# Altium schematic symbol library LCD.SchLib: 8 symbols
Pins are listed as number, name and electrical type; pins without a type are passive.

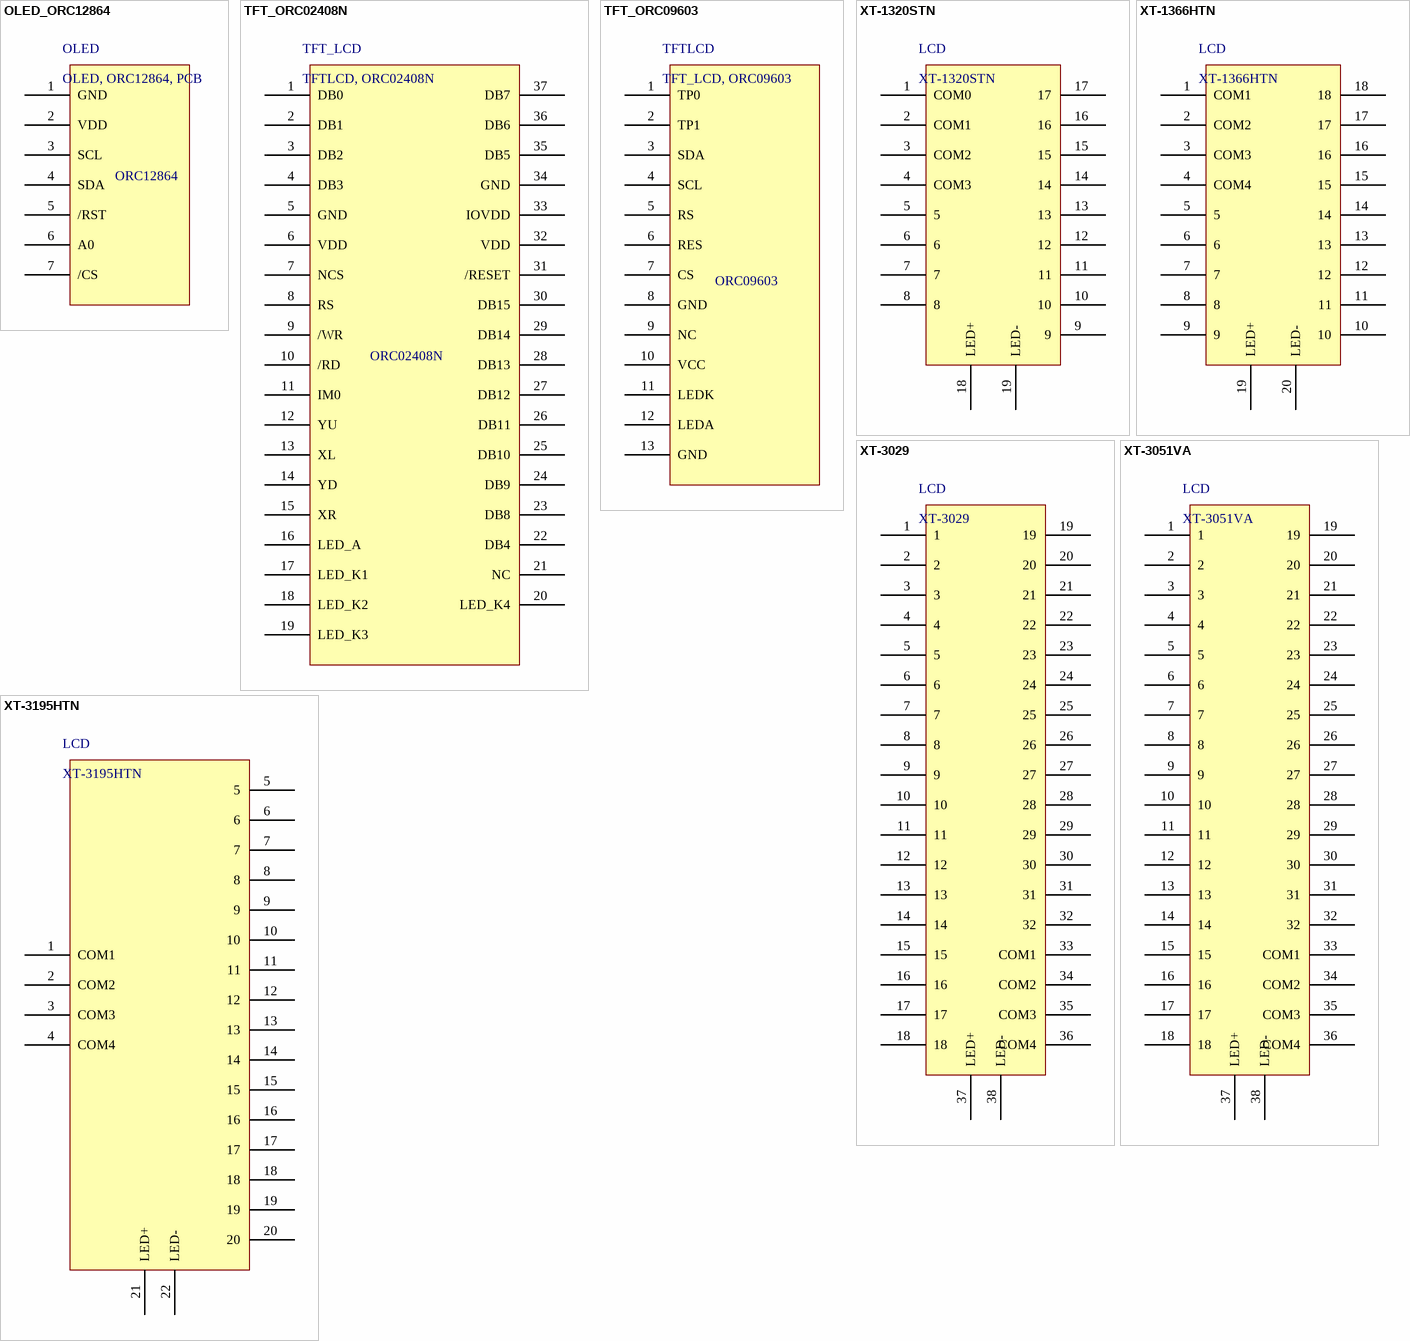
[diagram p0: symbols OLED_ORC12864 to XT-3195HTN]

## OLED_ORC12864
designator OLED, comment OLED, ORC12864, PCB
pins: 1 GND, 2 VDD, 3 SCL, 4 SDA, 5 /RST, 6 A0, 7 /CS
text: ORC12864

## TFT_ORC02408N
designator TFT_LCD, comment TFTLCD, ORC02408N
pins: 1 DB0, 2 DB1, 3 DB2, 4 DB3, 5 GND, 6 VDD, 7 NCS, 8 RS, 9 /WR, 10 /RD, 11 IM0, 12 YU, 13 XL, 14 YD, 15 XR, 16 LED_A, 17 LED_K1, 18 LED_K2, 19 LED_K3, 20 LED_K4, 21 NC, 22 DB4, 23 DB8, 24 DB9, 25 DB10, 26 DB11, 27 DB12, 28 DB13, 29 DB14, 30 DB15, 31 /RESET, 32 VDD, 33 IOVDD, 34 GND, 35 DB5, 36 DB6, 37 DB7
text: ORC02408N

## TFT_ORC09603
designator TFTLCD, comment TFT_LCD, ORC09603
pins: 1 TP0, 2 TP1, 3 SDA, 4 SCL, 5 RS, 6 RES, 7 CS, 8 GND, 9 NC, 10 VCC, 11 LEDK, 12 LEDA, 13 GND
text: ORC09603

## XT-1320STN
designator LCD
footprint LCD_8+9PIN_21X22
pins: 1 COM0, 2 COM1, 3 COM2, 4 COM3, 5, 6, 7, 8, 9, 10, 11, 12, 13, 14, 15, 16, 17, 18 LED+, 19 LED-

## XT-1366HTN
designator LCD
footprint LCD_18PIN_20X16
pins: 1 COM1, 2 COM2, 3 COM3, 4 COM4, 5, 6, 7, 8, 9, 10, 11, 12, 13, 14, 15, 16, 17, 18, 19 LED+, 20 LED-

## XT-3029
designator LCD
footprint LCD_36PIN_93X33
pins: 1, 2, 3, 4, 5, 6, 7, 8, 9, 10, 11, 12, 13, 14, 15, 16, 17, 18, 19, 20, 21, 22, 23, 24, 25, 26, 27, 28, 29, 30, 31, 32, 33 COM1, 34 COM2, 35 COM3, 36 COM4, 37 LED+, 38 LED-

## XT-3051VA
designator LCD
footprint LCD_36PIN_68x26.4
pins: 1, 2, 3, 4, 5, 6, 7, 8, 9, 10, 11, 12, 13, 14, 15, 16, 17, 18, 19, 20, 21, 22, 23, 24, 25, 26, 27, 28, 29, 30, 31, 32, 33 COM1, 34 COM2, 35 COM3, 36 COM4, 37 LED+, 38 LED-

## XT-3195HTN
designator LCD
footprint LCD_4+16PIN_15.5x22
pins: 1 COM1, 2 COM2, 3 COM3, 4 COM4, 5, 6, 7, 8, 9, 10, 11, 12, 13, 14, 15, 16, 17, 18, 19, 20, 21 LED+, 22 LED-